# EAGLE library part PLP-XX (library ic)
PLP-xx: Low pass (Mini-Circuits) Usable for all plug-in low passes with A01 case, e.g., PLP-2.5, PLP-15-75
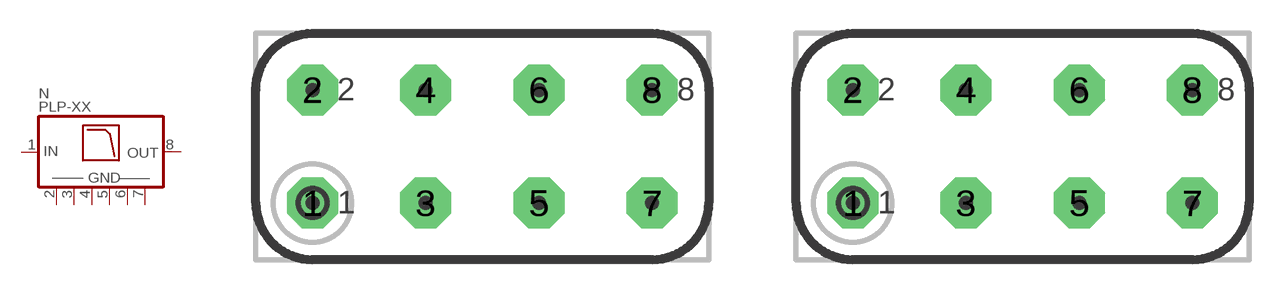
[diagram p47: symbol with the pads of MC-A01N; footprints MC-A01N, MC-A01G]

Designator prefix N

## PLP-XX  [MC-A01N]
1  IN  in
2  GND
3  GND
4  GND
5  GND
6  GND
7  GND
8  OUT  out

## PLP-XXG  [MC-A01G]
Pads as for MC-A01N

## Footprint MC-A01N (pad centres in mm)
Mini-Circuits A01 Metal case (20*10mm), 8 pins, Broken top plane
drill 0.991 pad 2.286 octagon: 1 -7.62,-2.54; 2 -7.62,2.54; 3 -2.54,-2.54; 4 -2.54,2.54; 5 2.54,-2.54; 6 2.54,2.54; 7 7.62,-2.54; 8 7.62,2.54

## Footprint MC-A01G (pad centres in mm)
Mini-Circuits A01 Metal case (20*10mm), 8 pins
drill 0.991 pad 2.286 octagon: 1 -7.62,-2.54; 2 -7.62,2.54; 3 -2.54,-2.54; 4 -2.54,2.54; 5 2.54,-2.54; 6 2.54,2.54; 7 7.62,-2.54; 8 7.62,2.54